# Altium footprint library Mechanical.PcbLib: 3 footprints
Each footprint in its own frame and in the unit in brackets; x right, y up, seen from the top. Pads: shape width x height; smd on the part's side, far side on the other; paste and mask are expansions set on the pad; w line width, h text height; cw(c..) or ccw(c..) is an arc to the next point about the centre after c.
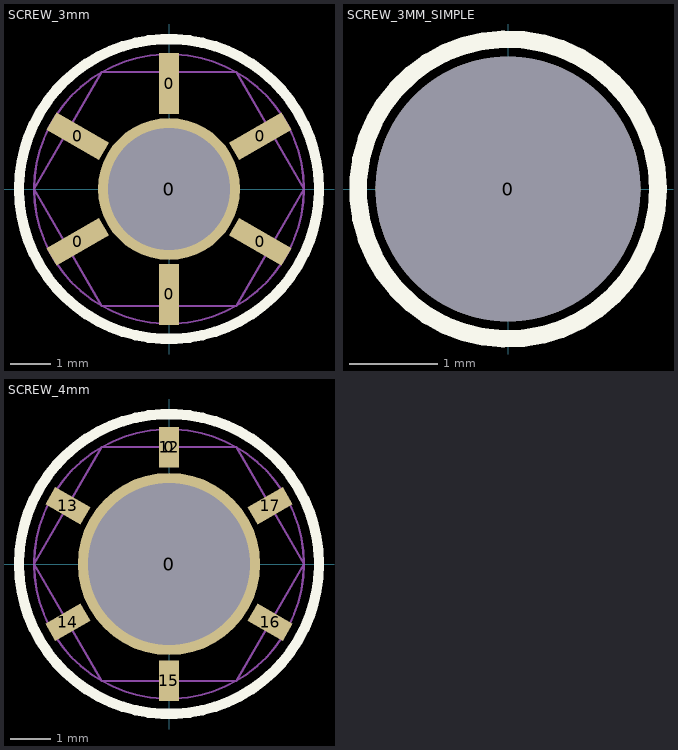
[diagram p0: the footprints below, top view; thin cyan lines are the x and y axes]

## SCREW_3mm [mm]
height 10.058
pads (7):
  rect 0.5x1.5 smd rot 120: 0(-2.252,-1.3) 0(2.252,1.3)
  rect 0.5x1.5 smd rot 60: 0(-2.252,1.3) 0(2.252,-1.3)
  rect 0.5x1.5 smd: 0(0,-2.6) 0(0,2.6)
  round 3.5 hole 3 mask+0: 0(0,0)
Top Overlay:
  circle w0.254: c0,0 r3.7
Mechanical 13:
  circle w0.051: c0,0 r3.327
  lines w0.051: -3.327,0 -1.663,-2.881 1.663,-2.881 3.327,0 1.663,2.881 -1.663,2.881 -3.327,0

## SCREW_3MM_SIMPLE [mm]
pads (1):
  round 3 hole 3: 0(0,0)
Top Overlay:
  circle w0.2: c0,0 r1.7

## SCREW_4mm [mm]
height 10.058
pads (8):
  round 4.5 hole 4 mask+0: 0(0,0)
  rect 0.5x1 smd: 0(0,2.881) 12(0,2.881) 15(0,-2.881)
  rect 0.5x1 smd rot 60: 13(-2.495,1.441) 16(2.495,-1.441)
  rect 0.5x1 smd rot 120: 14(-2.495,-1.441) 17(2.495,1.441)
Top Overlay:
  circle w0.254: c0,0 r3.7
Mechanical 13:
  circle w0.051: c0,0 r3.327
  lines w0.051: -3.327,0 -1.663,-2.881 1.663,-2.881 3.327,0 1.663,2.881 -1.663,2.881 -3.327,0